# Altium footprint library Schematic_Library_S88N.PcbLib: 12 footprints
Each footprint in its own frame and in the unit in brackets; x right, y up, seen from the top. Pads: shape width x height; smd on the part's side, far side on the other; paste and mask are expansions set on the pad; w line width, h text height; cw(c..) or ccw(c..) is an arc to the next point about the centre after c.
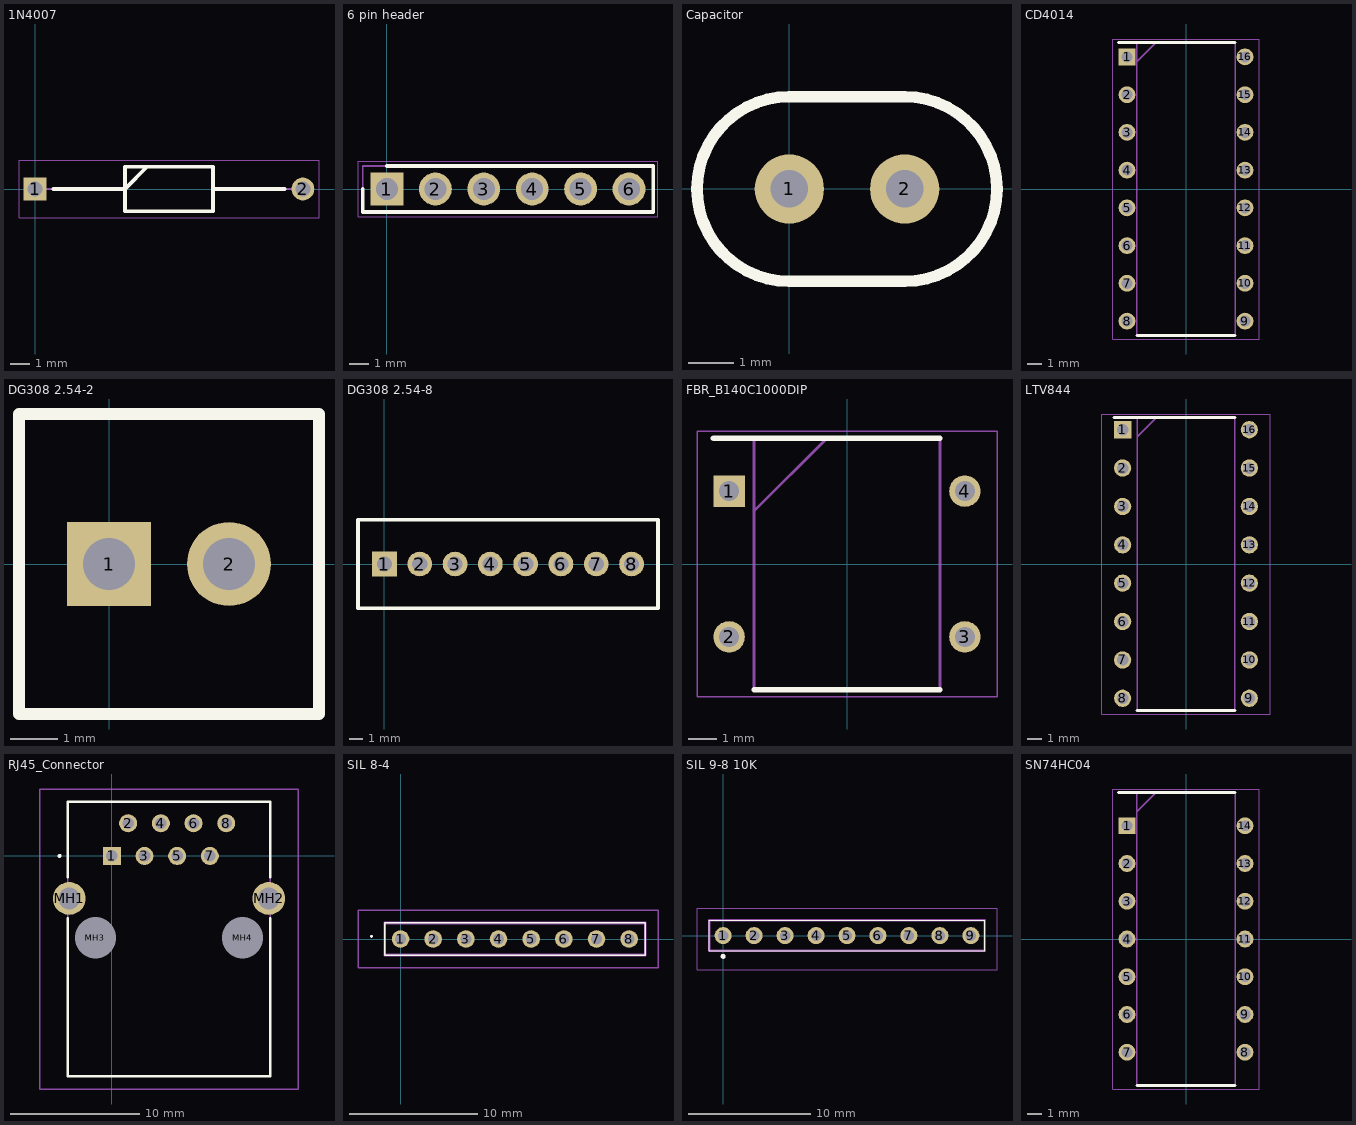
[diagram p0: the footprints below, top view; thin cyan lines are the x and y axes]

## 1N4007 [mm]
pads (2):
  rect 1.2x1.2 hole 0.8: 1(0,0)
  round 1.2 hole 0.8: 2(14.1,0)
Top Overlay:
  lines w0.2: 0.95,0 4.725,0 5.9,1.175 ; 9.375,0 13.15,0 ; 4.725,-1.175 4.725,1.175 9.375,1.175 9.375,-1.175 4.725,-1.175
Mechanical 13:
  lines w0.1: 0,0 4.725,0 5.9,1.175 ; 9.375,0 14.1,0 ; 4.725,-1.175 4.725,1.175 9.375,1.175 9.375,-1.175 4.725,-1.175
Mechanical 15:
  lines w0.05: -0.85,-1.525 -0.85,1.525 14.95,1.525 14.95,-1.525 -0.85,-1.525
3D body "1N4007.stp": height 2.7, standoff -2.7, extent -0.29,-1.34 14.34,1.34

## 6 pin header [mm] "HDRV6W67P0X254_1X6_1524X241X1062P"
pads (6):
  rect 1.725x1.725 hole 1.15: 1(0,0)
  round 1.725 hole 1.15: 2(2.54,0) 3(5.08,0) 4(7.62,0) 5(10.16,0) 6(12.7,0)
Top Overlay:
  lines w0.2: -1.27,0 -1.27,-1.205 13.97,-1.205 13.97,1.205 0,1.205
Mechanical 13:
  lines w0.1: -1.27,-1.205 -1.27,1.205 13.97,1.205 13.97,-1.205 -1.27,-1.205
Mechanical 15:
  lines w0.05: -1.52,-1.455 -1.52,1.455 14.22,1.455 14.22,-1.455 -1.52,-1.455
3D body "78511-406.stp": height 10.62, standoff -3.3, extent -1.27,-1.205 13.97,1.205

## Capacitor [mil]
pads (2):
  round 60 hole 32.5: 1(0,0) 2(100,0)
Top Overlay:
  lines w10: 0,-80 cw(c0,0) 0,80 100,80 cw(c100,0) 100,-80 0,-80

## CD4014 [mm] "DIP794W53P254L1930H508Q16N"
pads (16):
  rect 1.13x1.13 hole 0.73: 1(-3.97,8.89)
  round 1.13 hole 0.73: 2(-3.97,6.35) 3(-3.97,3.81) 4(-3.97,1.27) 5(-3.97,-1.27) 6(-3.97,-3.81) 7(-3.97,-6.35) 8(-3.97,-8.89) 9(3.97,-8.89) 10(3.97,-6.35) 11(3.97,-3.81) 12(3.97,-1.27) 13(3.97,1.27) 14(3.97,3.81) 15(3.97,6.35) 16(3.97,8.89)
Top Overlay:
  lines w0.2: -4.535,9.845 3.3,9.845 ; -3.3,-9.845 3.3,-9.845
Mechanical 13:
  lines w0.1: -3.3,8.575 -2.03,9.845 ; -3.3,-9.845 -3.3,9.845 3.3,9.845 3.3,-9.845 -3.3,-9.845
Mechanical 15:
  lines w0.05: -4.945,-10.095 -4.945,10.095 4.945,10.095 4.945,-10.095 -4.945,-10.095
3D body "CD4014BE.stp": height 5.35, standoff -3.02, extent -3.937,-9.842 3.937,9.842

## DG308 2.54-2 [mil] "DG308 2.54-2"
pads (2):
  rect 70x70 hole 43.31: 1(0,0)
  round 70 hole 43.31: 2(100,0)
Top Overlay:
  lines w10: -75,-125 175,-125 175,125 -75,125 -75,-125

## DG308 2.54-8 [mil] "DG308 2.54-8"
pads (8):
  rect 70x70 hole 43.31: 1(0,0)
  round 70 hole 43.31: 2(100,0) 3(200,0) 4(300,0) 5(400,0) 6(500,0) 7(600,0) 8(700,0)
Top Overlay:
  lines w10: -75,-125 775,-125 775,125 -75,125 -75,-125

## FBR_B140C1000DIP [mm]
pads (4):
  rect 1.1x1.1 hole 0.7: 1(-4.125,2.55)
  round 1.1 hole 0.7: 2(-4.125,-2.55) 3(4.125,-2.55) 4(4.125,2.55)
Top Overlay:
  lines w0.2: -4.675,4.4 3.25,4.4 ; -3.25,-4.4 3.25,-4.4
Mechanical 13:
  lines w0.1: -3.25,1.85 -0.7,4.4 ; -3.25,-4.4 -3.25,4.4 3.25,4.4 3.25,-4.4 -3.25,-4.4
Mechanical 15:
  lines w0.05: -5.25,-4.65 -5.25,4.65 5.25,4.65 5.25,-4.65 -5.25,-4.65
3D body "DB101.stp": height 4.9, standoff -3.5, extent -4.25,-4.15 4.25,4.15

## LTV844 [mm]
pads (16):
  rect 1.2x1.2 hole 0.8: 1(-4.4,9.328)
  round 1.2 hole 0.8: 2(-4.4,6.662) 3(-4.4,3.998) 4(-4.4,1.332) 5(-4.4,-1.332) 6(-4.4,-3.998) 7(-4.4,-6.662) 8(-4.4,-9.328) 9(4.4,-9.328) 10(4.4,-6.662) 11(4.4,-3.998) 12(4.4,-1.332) 13(4.4,1.332) 14(4.4,3.998) 15(4.4,6.662) 16(4.4,9.328)
Top Overlay:
  lines w0.2: -5,10.17 3.4,10.17 ; -3.4,-10.17 3.4,-10.17
Mechanical 13:
  lines w0.1: -3.4,8.838 -2.068,10.17 ; -3.4,-10.17 -3.4,10.17 3.4,10.17 3.4,-10.17 -3.4,-10.17
Mechanical 15:
  lines w0.05: -5.84,-10.42 -5.84,10.42 5.84,10.42 5.84,-10.42 -5.84,-10.42
3D body "LTV-844.stp": height 4.5, standoff -3.5, extent -4.55,-9.928 4.55,9.928

## RJ45_Connector [mm] "2562910000"
pads (12):
  rect 1.4x1.4 hole 0.9: 1(0,0)
  round 1.4 hole 0.9: 2(1.27,2.54) 3(2.54,0) 4(3.81,2.54) 5(5.08,0) 6(6.35,2.54) 7(7.62,0) 8(8.89,2.54)
  round 2.55 hole 1.7: MH1(-3.305,-3.3) MH2(12.195,-3.3)
  round 1.6 hole 3.2 unplated: MH3(-1.27,-6.35) MH4(10.16,-6.35)
Top Overlay:
  lines w0.2: -3.405,-4.85 -3.405,-17.1 12.295,-17.1 12.295,-4.85 ; -3.405,-1.65 -3.405,4.2 12.295,4.2 12.295,-1.65 ; -4.1,0 ccw(c-4.05,0) -4,0 ; -4.1,0 cw(c-4.05,0) -4,0 ; -4.1,0 cw(c-4.05,0) -4,0
Mechanical 13:
  lines w0.1: -3.405,-17.1 12.295,-17.1 12.295,4.2 -3.405,4.2 -3.405,-17.1
Mechanical 15:
  lines w0.1: -5.58,-18.1 14.47,-18.1 14.47,5.2 -5.58,5.2 -5.58,-18.1
3D body "2562910000.stp": height 8.52, standoff -10.81, extent -5.608,-17.025 14.732,4.325

## SIL 8-4 [mm]
pads (8):
  round 1.365 hole 0.84: 1(0,0) 2(2.54,0) 3(5.08,0) 4(7.62,0) 5(10.16,0) 6(12.7,0) 7(15.24,0) 8(17.78,0)
Top Overlay:
  lines w0.1: -2.31,0.2 ccw(c-2.26,0.2) -2.21,0.2 ccw(c-2.26,0.2) -2.31,0.2 ; -1.245,-1.245 19.025,-1.245 19.025,1.245 -1.245,1.245 -1.245,-1.245
Mechanical 13:
  lines w0.2: -1.245,-1.245 19.025,-1.245 19.025,1.245 -1.245,1.245 -1.245,-1.245
Mechanical 15:
  lines w0.1: -3.31,-2.245 20.025,-2.245 20.025,2.245 -3.31,2.245 -3.31,-2.245
3D body "4608X-102-102LF.stp": height 5.18, standoff -5, extent -1.245,-1.245 19.025,1.245

## SIL 9-8 10K [mil] "CSC09A0110K0GEK"
pads (9):
  round 55 hole 33.86: 1(0,0) 2(100,0) 3(200,0) 4(300,0) 5(400,0) 6(500,0) 7(600,0) 8(700,0) 9(800,0)
Top Overlay:
  lines w3.94: -45.08,-49.02 -45.08,49.02 845.08,49.02 845.08,-49.02 -45.08,-49.02
  lines w7.87: -3.94,-66.93 ccw(c0,-66.93) 3.94,-66.93 ccw(c0,-66.93) -3.94,-66.93
Mechanical 13:
  lines w7.87: -45.08,-49.02 -45.08,49.02 845.08,49.02 845.08,-49.02 -45.08,-49.02
Mechanical 15:
  lines w3.94: -84.45,-110.24 -84.45,88.39 884.45,88.39 884.45,-110.24 -84.45,-110.24
3D body "CSC09A0110K0GEK.stp": height 198.82, standoff -196.85, extent -45.08,-49.02 845.08,49.02

## SN74HC04 [mm]
pads (14):
  rect 1.13x1.13 hole 0.73: 1(-3.97,7.62)
  round 1.13 hole 0.73: 2(-3.97,5.08) 3(-3.97,2.54) 4(-3.97,0) 5(-3.97,-2.54) 6(-3.97,-5.08) 7(-3.97,-7.62) 8(3.97,-7.62) 9(3.97,-5.08) 10(3.97,-2.54) 11(3.97,0) 12(3.97,2.54) 13(3.97,5.08) 14(3.97,7.62)
Top Overlay:
  lines w0.2: -4.535,9.845 3.3,9.845 ; -3.3,-9.845 3.3,-9.845
Mechanical 13:
  lines w0.1: -3.3,8.575 -2.03,9.845 ; -3.3,-9.845 3.3,-9.845 3.3,9.845 -3.3,9.845 -3.3,-9.845
Mechanical 15:
  lines w0.05: -4.945,-10.095 4.945,-10.095 4.945,10.095 -4.945,10.095 -4.945,-10.095
3D body "SN74HC04N.stp": height 5.09, standoff -3.28, extent -3.937,-9.842 3.937,9.842